# Altium integrated library 7461084_Altium_WP-BUTR_rev19a.IntLib: 6 symbols
Pins are listed as number, name and electrical type; pins without a type are passive.

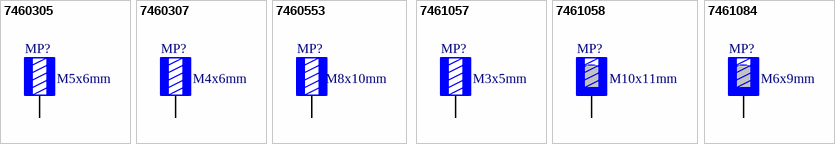
[diagram p0: symbols 7460305 to 7461084]

## 7460305
designator MP?, comment M5x6mm
WP-BUTR Press-Fit with Internal thread, two rows, 9x9mm, 8 pins, M5x6mm, 160A; Part Number: 7460305; Pin Number: 8; Thread Length: 6mm; Thread: M5; Surface: Tin; ComponentLink1Description: Manufacturer; ComponentLink1URL: http://www.we-online.de; ComponentLink2Description: Datasheet; ComponentLink2URL: https://katalog.we-online.com/em/datasheet/7460305.pdf; Operating Temperature: -55 to +150degC; Height: 7mm; Material: Brass; Packaging: Bulk; Mounting Technology: Press-Fit; Rated Current: 160A; Publisher: Wurth Elektronik; Published Date: September 2019; Size: 9x9mm
footprint 7460305_for HAL
footprint 7460305_for chemical surfaces
pins: 1

## 7460307
designator MP?, comment M4x6mm
WP-BUTR Press-Fit with Internal thread, two rows, 9x9mm, 8 pins, M4x6mm, 160A; Part Number: 7460307; Pin Number: 8; Thread Length: 6mm; Thread: M4; Surface: Tin; ComponentLink1Description: Manufacturer; ComponentLink1URL: http://www.we-online.de; ComponentLink2Description: Datasheet; ComponentLink2URL: https://katalog.we-online.com/em/datasheet/7460307.pdf; Operating Temperature: -55 to +150degC; Height: 7mm; Material: Brass; Packaging: Bulk; Mounting Technology: Press-Fit; Rated Current: 160A; Publisher: Wurth Elektronik; Published Date: September 2019; Size: 9x9mm
footprint 7460307_for HAL
footprint 7460307_for chemical surfaces
pins: 1

## 7460553
designator MP?, comment M8x10mm
WP-BUTR Press-Fit with Internal thread, two rows, 13x13mm, 10 pins, M8x10mm, 240A; Part Number: 7460553; Pin Number: 10; Thread Length: 10mm; Thread: M8; Surface: Tin; ComponentLink1Description: Manufacturer; ComponentLink1URL: http://www.we-online.de; ComponentLink2Description: Datasheet; ComponentLink2URL: https://katalog.we-online.com/em/datasheet/7460553.pdf; Operating Temperature: -55 to +150degC; Height: 13.5mm; Material: Brass; Packaging: Bulk; Mounting Technology: Press-Fit; Rated Current: 240A; Publisher: Wurth Elektronik; Published Date: September 2019; Size: 13x13mm
footprint 7460553_for HAL
footprint 7460553_for chemical surfaces
pins: 1

## 7461057
designator MP?, comment M3x5mm
WP-BUTR Press-Fit with Internal thread, two rows, 7x7mm, 6 pins, M3x5mm, 100A; Part Number: 7461057; Pin Number: 6; Thread Length: 5mm; Thread: M3; Surface: Tin; ComponentLink1Description: Manufacturer; ComponentLink1URL: http://www.we-online.de; ComponentLink2Description: Datasheet; ComponentLink2URL: https://katalog.we-online.com/em/datasheet/7461057.pdf; Operating Temperature: -55 to +150degC; Height: 6mm; Material: Brass; Packaging: Bulk; Mounting Technology: Press-Fit; Rated Current: 100A; Publisher: Wurth Elektronik; Published Date: September 2019; Size: 7x7mm
footprint 7461057_for HAL
footprint 7461057_for chemical surfaces
pins: 1

## 7461058
designator MP?, comment M10x11mm
WP-BUTR Press-Fit with Internal thread, two rows, 16x16mm, 12 pins, M10x11mm, 320A; Part Number: 7461058; Pin Number: 12; Thread Length: 11mm; Thread: M10; Surface: Tin; ComponentLink1Description: Manufacturer; ComponentLink1URL: http://www.we-online.de; ComponentLink2Description: Datasheet; ComponentLink2URL: https://katalog.we-online.com/em/datasheet/7461058.pdf; Operating Temperature: -55 to +150degC; Height: 17.5mm; Material: Brass; Packaging: Bulk; Mounting Technology: Press-Fit; Rated Current: 320A; Publisher: Wurth Elektronik; Published Date: September 2019; Size: 16x16mm
footprint 7461058_for HAL
footprint 7461058_for chemical surfaces
pins: 1

## 7461084
designator MP?, comment M6x9mm
WP-BUTR Press-Fit with Internal thread, two rows, 10x10mm, 8 pins, M6x9mm, 160A; Part Number: 7461084; Pin Number: 8; Thread Length: 9mm; Thread: M6; Surface: Tin; ComponentLink1Description: Manufacturer; ComponentLink1URL: http://www.we-online.de; ComponentLink2Description: Datasheet; ComponentLink2URL: https://katalog.we-online.com/em/datasheet/7461084.pdf; Operating Temperature: -55 to +150degC; Height: 13.5mm; Material: Brass; Packaging: Bulk; Mounting Technology: Press-Fit; Rated Current: 160A; Publisher: Wurth Elektronik; Published Date: September 2019; Size: 10x10mm
footprint 7461084_for HAL
footprint 7461084_for chemical surfaces
pins: 1